# Altium footprint library 220ADC04.PcbLib: 1 footprints
Each footprint in its own frame and in the unit in brackets; x right, y up, seen from the top. Pads: shape width x height; smd on the part's side, far side on the other; paste and mask are expansions set on the pad; w line width, h text height; cw(c..) or ccw(c..) is an arc to the next point about the centre after c.
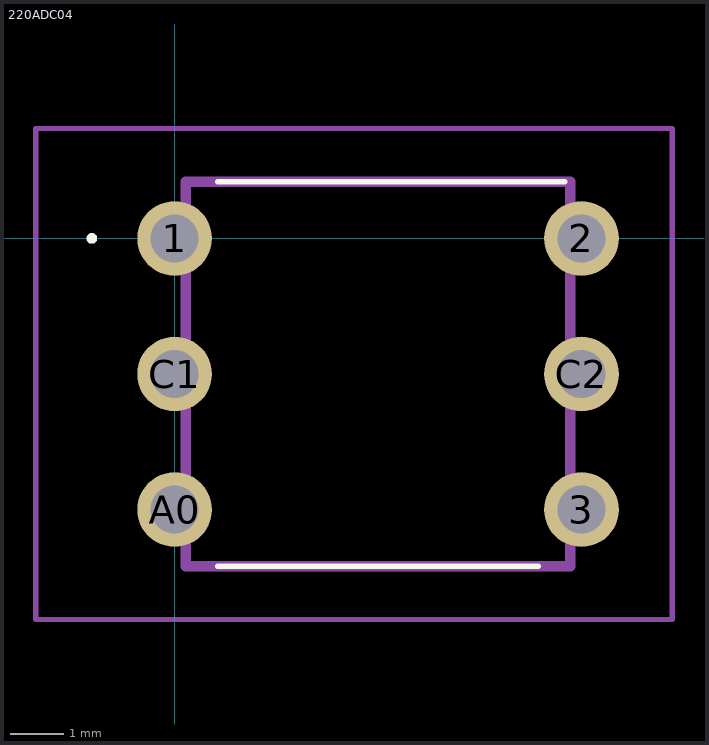
[diagram p0: the footprint, top view; thin cyan lines are the x and y axes]

## 220ADC04 [mm]
pads (6):
  round 1.4 hole 0.9: 1(0,0) 2(7.62,0) 3(7.62,-5.08) A0(0,-5.08) C1(0,-2.54) C2(7.62,-2.54)
Top Overlay:
  lines w0.1: 0.81,-6.14 6.81,-6.14 ; 0.81,1.06 7.31,1.06 ; -1.6,0 cw(c-1.55,0) -1.5,0 ; -1.6,0 -1.6,0 ; -1.6,0 ccw(c-1.55,0) -1.5,0 ; -1.5,0 -1.5,0
Mechanical 15:
  lines w0.2: 0.21,-6.14 7.41,-6.14 7.41,1.06 0.21,1.06 0.21,-6.14
Mechanical 20:
  lines w0.1: -2.6,-7.14 9.32,-7.14 9.32,2.06 -2.6,2.06 -2.6,-7.14